# EAGLE library part TLV61220 (library bschulz)
TLV61220 - Low-Input Voltage Step-Up Converter (Boost) Characteristics: Vin: 0.7V ~ 5.5V Vout: 1.8V ~ 5.5V Output Current (Max): 400 mA IQ: 5μA Operating Temperature: -40°C to 85°C Digikey: 296-30547-1-ND <https://www.digikey.com/product-detail/en/texas-instruments/TLV61220DBVR/296-30547-1-ND/3458120>
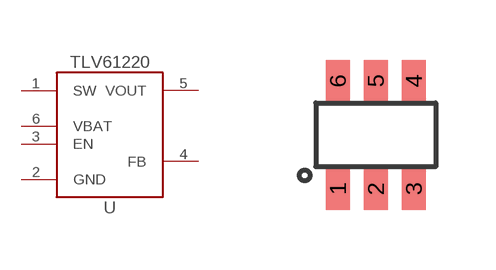
[diagram p62: symbol with the pads of DBV_R-PDSO-G6; footprint DBV_R-PDSO-G6]

Designator prefix U

## TLV61220DBV (DIGIKEY: 296-30547-1-ND; MF: TI; MPN: TLV61220DBVR)  [DBV_R-PDSO-G6]
1  SW  pwr
2  GND  pwr
3  EN  in
4  FB  in
5  VOUT  pwr
6  VBAT  pwr

## Footprint DBV_R-PDSO-G6 (pad centres in mm)
smd 0.6 x 1.05: 1 -0.95,-1.35; 2 0,-1.35; 3 0.95,-1.35; 4 0.95,1.35; 5 0,1.35; 6 -0.95,1.35